# EAGLE library part TPS563231?* (library TPS563231)
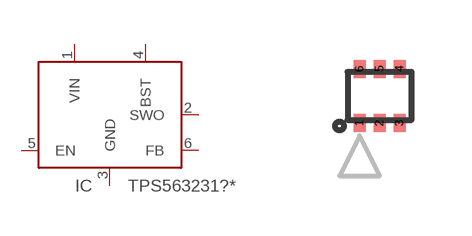
[diagram p0: symbol with the pads of SOT563; footprint SOT563]

Designator prefix IC

## TPS563231DRLR, TPS563231DRLT  [SOT563]
1  VIN  pwr
2  SWO  out
3  GND  pwr
4  BST  in
5  EN  in
6  FB  in

## Footprint SOT563 (pad centres in mm)
smd 0.3 x 0.45: 1 -0.5,-0.68; 2 0,-0.68; 3 0.5,-0.68; 4 0.5,0.68; 5 0,0.68; 6 -0.5,0.68